# EAGLE library part SN65LVDS386 (library sn65lvds)
SN65LVDS386 High Speed Differential Line Receiver
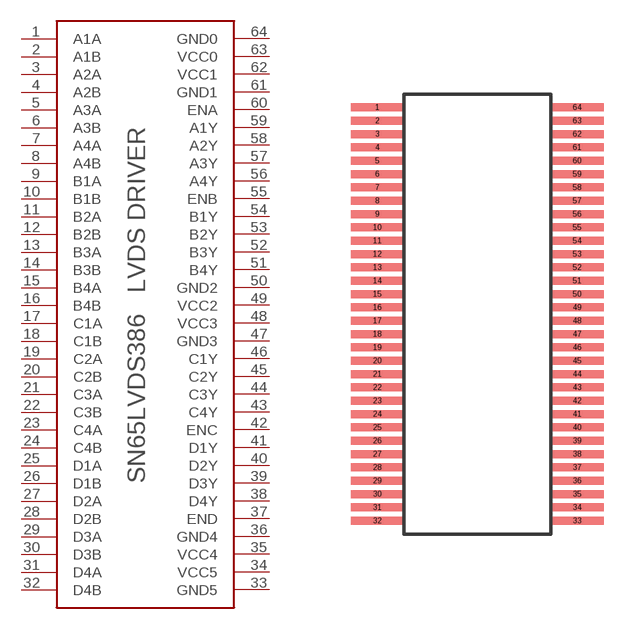
[diagram p0: symbol with the pads of DGG-64; footprint DGG-64]

Designator prefix -

## SN65LVDS386  [DGG-64]
1  A1A  in
2  A1B  in
3  A2A  in
4  A2B  in
5  A3A  in
6  A3B  in
7  A4A  in
8  A4B  in
9  B1A  in
10  B1B  in
11  B2A  in
12  B2B  in
13  B3A  in
14  B3B  in
15  B4A  in
16  B4B  in
17  C1A  in
18  C1B  in
19  C2A  in
20  C2B  in
21  C3A  in
22  C3B  in
23  C4A  in
24  C4B  in
25  D1A  in
26  D1B  in
27  D2A  in
28  D2B  in
29  D3A  in
30  D3B  in
31  D4A  in
32  D4B  in
33  GND5  pwr
34  VCC5  pwr
35  VCC4  pwr
36  GND4  pwr
37  END
38  D4Y  out
39  D3Y  out
40  D2Y  out
41  D1Y  out
42  ENC
43  C4Y  out
44  C3Y  out
45  C2Y  out
46  C1Y  out
47  GND3  pwr
48  VCC3  pwr
49  VCC2  pwr
50  GND2  pwr
51  B4Y  out
52  B3Y  out
53  B2Y  out
54  B1Y  out
55  ENB
56  A4Y  out
57  A3Y  out
58  A2Y  out
59  A1Y  out
60  ENA
61  GND1  pwr
62  VCC1  pwr
63  VCC0  pwr
64  GND0  pwr

## Footprint DGG-64 (pad centres in mm)
smd 2 x 0.3: 1 1,0; 2 1,-0.5; 3 1,-1; 4 1,-1.5; 5 1,-2; 6 1,-2.5; 7 1,-3; 8 1,-3.5; 9 1,-4; 10 1,-4.5; 11 1,-5; 12 1,-5.5; 13 1,-6; 14 1,-6.5; 15 1,-7; 16 1,-7.5; 17 1,-8; 18 1,-8.5; 19 1,-9; 20 1,-9.5; 21 1,-10; 22 1,-10.5; 23 1,-11; 24 1,-11.5; 25 1,-12; 26 1,-12.5; 27 1,-13; 28 1,-13.5; 29 1,-14; 30 1,-14.5; 31 1,-15; 32 1,-15.5; 33 8.5,-15.5; 34 8.5,-15; 35 8.5,-14.5; 36 8.5,-14; 37 8.5,-13.5; 38 8.5,-13; 39 8.5,-12.5; 40 8.5,-12; 41 8.5,-11.5; 42 8.5,-11; 43 8.5,-10.5; 44 8.5,-10; 45 8.5,-9.5; 46 8.5,-9; 47 8.5,-8.5; 48 8.5,-8; 49 8.5,-7.5; 50 8.5,-7; 51 8.5,-6.5; 52 8.5,-6; 53 8.5,-5.5; 54 8.5,-5; 55 8.5,-4.5; 56 8.5,-4; 57 8.5,-3.5; 58 8.5,-3; 59 8.5,-2.5; 60 8.5,-2; 61 8.5,-1.5; 62 8.5,-1; 63 8.5,-0.5; 64 8.5,0